# Altium footprint library LIS3DH.PcbLib: 3 footprints
Each footprint in its own frame and in the unit in brackets; x right, y up, seen from the top. Pads: shape width x height; smd on the part's side, far side on the other; paste and mask are expansions set on the pad; w line width, h text height; cw(c..) or ccw(c..) is an arc to the next point about the centre after c.
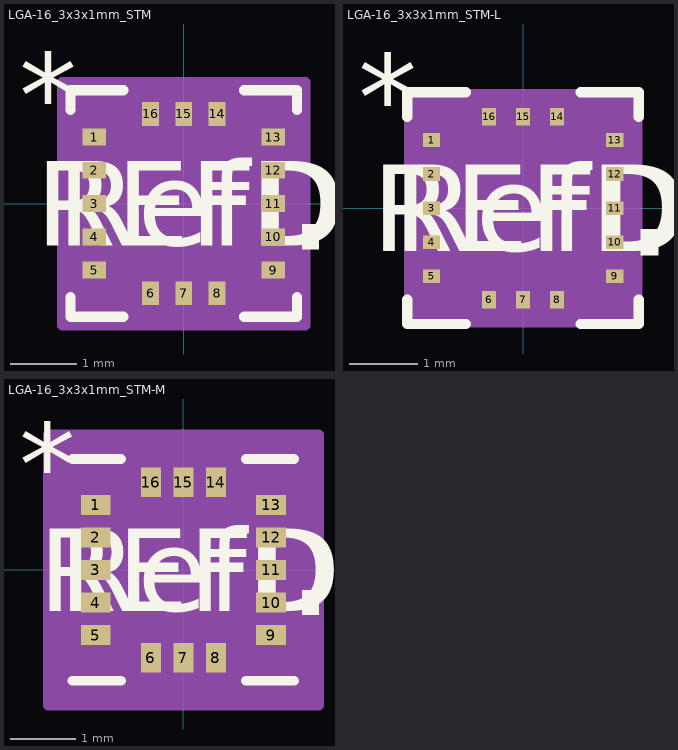
[diagram p0: the footprints below, top view; thin cyan lines are the x and y axes]

## LGA-16_3x3x1mm_STM [mil]
pads (16):
  rect 14x10 smd paste+0 mask+0: 1(-53,39.37) 2(-53,19.68) 3(-53,0) 4(-53,-19.68) 5(-53,-39.37) 9(53,-39.37) 10(53,-19.68) 11(53,0) 12(53,19.68) 13(53,39.37)
  rect 10x14 smd paste+0 mask+0: 6(-19.68,-53) 7(0,-53) 8(19.68,-53) 14(19.68,53) 15(0,53) 16(-19.68,53)
Top Overlay:
  region: 70,-12.19 80,-12.19 80,-27.18 70,-27.18
  lines w6: -67,-55.44 -67,-67 -35.76,-67 ; -67,55.44 -67,67 -35.76,67 ; 35.76,-67 67,-67 67,-55.44 ; 35.76,67 67,67 67,55.44
  text "*" at -97.5,39.21 h50
  text "RefDes" at -75,-25 h50
  text "REFDES" at -87.5,-25 h50
Mechanical 13:
  lines w1: -62,12 -12,62 ; -62,-62 62,-62 62,62 -62,62 -62,-62
  text "*" at -58.5,39.21 h50
  text "RefDes2" at -87.5,-25 h50
Mechanical 15:
  region: -34.69,-72 -72,-72 -72,-54.37 -72,54.37 -72,72 -34.69,72 34.69,72 72,72 72,54.37 72,-54.37 72,-72 34.69,-72
  lines w6: -72,-54.37 -72,-72 -34.69,-72 ; -72,-54.37 -72,-54.37 ; -72,-54.37 -72,54.37 ; -72,54.37 -72,54.37 ; -72,54.37 -72,72 -34.69,72 ; -34.69,-72 -34.69,-72 ; -34.69,-72 34.69,-72 ; -34.69,72 -34.69,72 ; -34.69,72 34.69,72 ; 34.69,-72 34.69,-72 ; 34.69,-72 72,-72 72,-54.37 ; 34.69,72 34.69,72 ; 34.69,72 72,72 72,54.37 ; 72,-54.37 72,-54.37 ; 72,-54.37 72,54.37 ; 72,54.37 72,54.37
3D body "LGA-16_3x3x1mm_STM.step": height 39.09, standoff 0, extent -62.01,-62.01 62.01,62.01

## LGA-16_3x3x1mm_STM-L [mil]
pads (16):
  rect 10.06x8.03 smd paste+0 mask+0: 1(-53,39.37) 2(-53,19.68) 3(-53,0) 4(-53,-19.68) 5(-53,-39.37) 9(53,-39.37) 10(53,-19.68) 11(53,0) 12(53,19.68) 13(53,39.37)
  rect 8.03x10.06 smd paste+0 mask+0: 6(-19.68,-53) 7(0,-53) 8(19.68,-53) 14(19.68,53) 15(0,53) 16(-19.68,53)
Top Overlay:
  region: 68.03,-12.19 78.03,-12.19 78.03,-27.18 68.03,-27.18
  lines w6: -67,-52.93 -67,-67 -33.25,-67 ; -67,52.93 -67,67 -33.25,67 ; 33.25,-67 67,-67 67,-52.93 ; 33.25,67 67,67 67,52.93
  text "*" at -95.53,39.21 h50
  text "RefDes" at -75,-25 h50
  text "REFDES" at -87.5,-25 h50
Mechanical 13:
  lines w1: -62,12 -12,62 ; -62,-62 62,-62 62,62 -62,62 -62,-62
  text "*" at -60.47,39.21 h50
  text "RefDes2" at -87.5,-25 h50
Mechanical 15:
  region: -28.68,-66 -66,-66 -66,-48.37 -66,48.37 -66,66 -28.68,66 28.68,66 66,66 66,48.37 66,-48.37 66,-66 28.68,-66
  lines w6: -66,-48.37 -66,-66 -28.68,-66 ; -66,-48.37 -66,-48.37 ; -66,-48.37 -66,48.37 ; -66,48.37 -66,48.37 ; -66,48.37 -66,66 -28.68,66 ; -28.68,-66 -28.68,-66 ; -28.68,-66 28.68,-66 ; -28.68,66 -28.68,66 ; -28.68,66 28.68,66 ; 28.68,-66 28.68,-66 ; 28.68,-66 66,-66 66,-48.37 ; 28.68,66 28.68,66 ; 28.68,66 66,66 66,48.37 ; 66,-48.37 66,-48.37 ; 66,-48.37 66,48.37 ; 66,48.37 66,48.37
3D body "LGA-16_3x3x1mm_STM.step": height 39.09, standoff 0, extent -62.01,-62.01 62.01,62.01

## LGA-16_3x3x1mm_STM-M [mil]
pads (16):
  rect 17.94x11.97 smd paste+0 mask+0: 1(-53,39.37) 2(-53,19.68) 3(-53,0) 4(-53,-19.68) 5(-53,-39.37) 9(53,-39.37) 10(53,-19.68) 11(53,0) 12(53,19.68) 13(53,39.37)
  rect 11.97x17.94 smd paste+0 mask+0: 6(-19.68,-53) 7(0,-53) 8(19.68,-53) 14(19.68,53) 15(0,53) 16(-19.68,53)
Top Overlay:
  region: 71.97,-12.19 81.97,-12.19 81.97,-27.18 71.97,-27.18
  lines w6: -67,-67 -37.76,-67 ; -67,67 -37.76,67 ; 37.76,-67 67,-67 ; 37.76,67 67,67
  text "*" at -99.47,39.21 h50
  text "RefDes" at -75,-25 h50
  text "REFDES" at -87.5,-25 h50
Mechanical 13:
  lines w1: -62,12 -12,62 ; -62,-62 62,-62 62,62 -62,62 -62,-62
  text "*" at -56.53,39.21 h50
  text "RefDes2" at -87.5,-25 h50
Mechanical 15:
  region: -44.69,-82 -82,-82 -82,-64.37 -82,64.37 -82,82 -44.69,82 44.69,82 82,82 82,64.37 82,-64.37 82,-82 44.69,-82
  lines w6: -82,-64.37 -82,-82 -44.69,-82 ; -82,-64.37 -82,-64.37 ; -82,-64.37 -82,64.37 ; -82,64.37 -82,64.37 ; -82,64.37 -82,82 -44.69,82 ; -44.69,-82 -44.69,-82 ; -44.69,-82 44.69,-82 ; -44.69,82 -44.69,82 ; -44.69,82 44.69,82 ; 44.69,-82 44.69,-82 ; 44.69,-82 82,-82 82,-64.37 ; 44.69,82 44.69,82 ; 44.69,82 82,82 82,64.37 ; 82,-64.37 82,-64.37 ; 82,-64.37 82,64.37 ; 82,64.37 82,64.37
3D body "LGA-16_3x3x1mm_STM.step": height 39.09, standoff 0, extent -62.01,-62.01 62.01,62.01